# EAGLE library part L6920 (library converter)
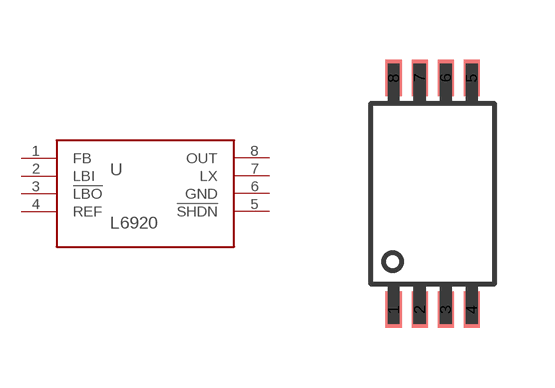
[diagram p0: symbol with the pads of TSSOP8; footprint TSSOP8]

Designator prefix -

## L6920  [TSSOP8]
1  FB
2  LBI
3  !LBO
4  REF
5  !SHDN
6  GND
7  LX
8  OUT

## Footprint TSSOP8 (pad centres in mm)
smd 0.4 x 0.9: 1 -0.975,-2.9; 2 -0.325,-2.9; 3 0.325,-2.9; 4 0.975,-2.9; 5 0.975,2.9; 6 0.325,2.9; 7 -0.325,2.9; 8 -0.975,2.9